# Altium footprint library Stock_Resistors.PcbLib: 9 footprints
Each footprint in its own frame and in the unit in brackets; x right, y up, seen from the top. Pads: shape width x height; smd on the part's side, far side on the other; paste and mask are expansions set on the pad; w line width, h text height; cw(c..) or ccw(c..) is an arc to the next point about the centre after c.
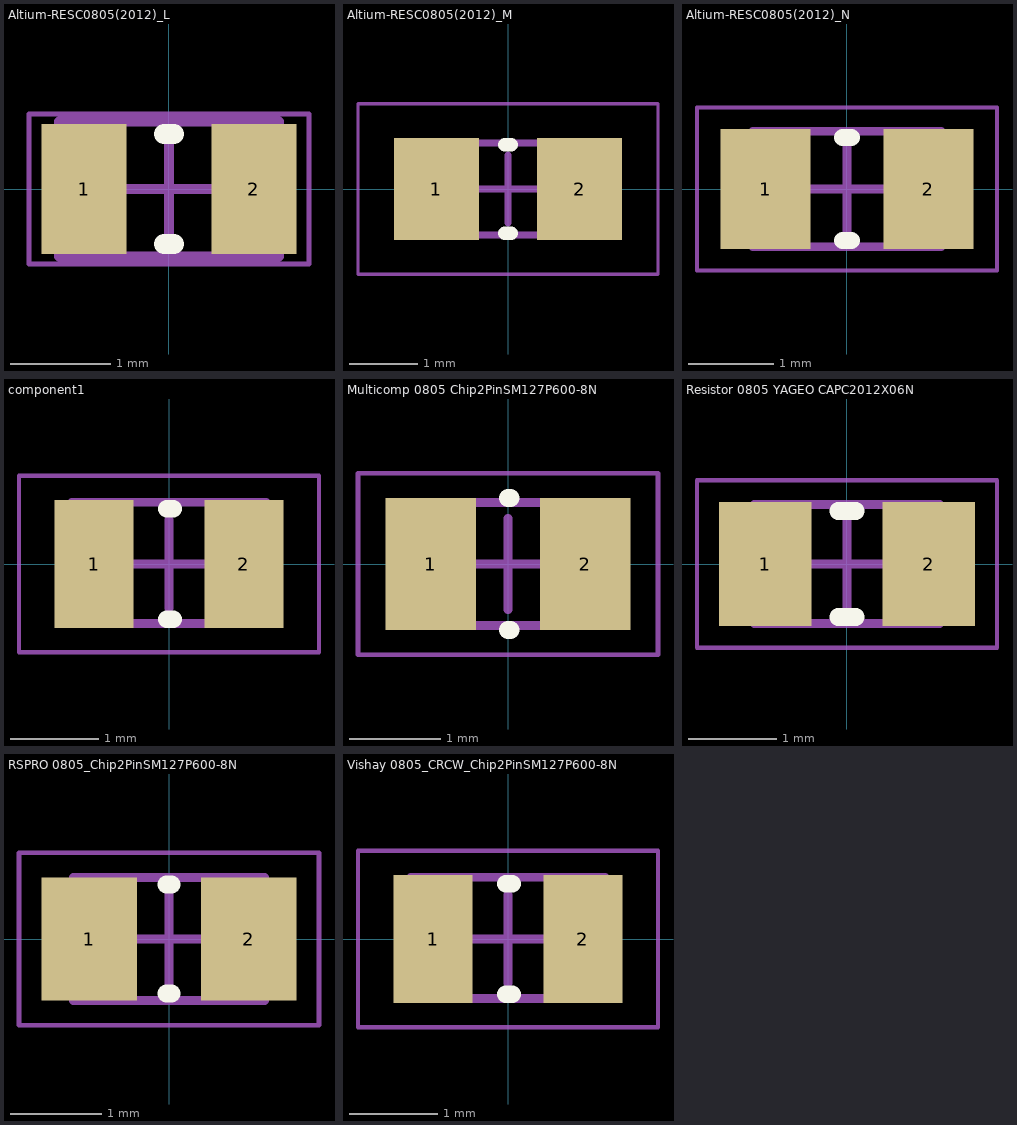
[diagram p0: the footprints below, top view; thin cyan lines are the x and y axes]

## Altium-RESC0805(2012)_L [mm] "Altium 0805 type L"
height 2
pads (2):
  rect 0.85x1.3 smd: 1(-0.85,0) 2(0.85,0)
Top Overlay:
  lines w0.2: -0.05,-0.55 0.05,-0.55 ; -0.05,0.55 0.05,0.55
Mechanical 13:
  lines w0.1: -1.1,-0.675 -1.1,0.675 1.1,0.675 1.1,-0.675 -1.1,-0.675
Mechanical 15:
  lines w0.05: -1.4,-0.75 -1.4,0.75 1.4,0.75 1.4,-0.75 -1.4,-0.75
  lines w0.1: -0.5,0 0.5,0 ; 0,-0.5 0,0.5

## Altium-RESC0805(2012)_M [mm] "Altium 0805 type M"
height 2
pads (2):
  rect 1.25x1.5 smd: 1(-1.05,0) 2(1.05,0)
Top Overlay:
  lines w0.2: -0.05,-0.65 0.05,-0.65 ; -0.05,0.65 0.05,0.65
Mechanical 13:
  lines w0.1: -1.1,-0.675 1.1,-0.675 1.1,0.675 -1.1,0.675 -1.1,-0.675
Mechanical 15:
  lines w0.05: -2.2,-1.25 2.2,-1.25 2.2,1.25 -2.2,1.25 -2.2,-1.25
  lines w0.1: -0.5,0 0.5,0 ; 0,-0.5 0,0.5
3D body: height 0.7, standoff 0, extent 0.68,-0.675 1.1,0.675
3D body: height 0.7, standoff 0, extent -0.68,-0.675 0.68,0.675
3D body: height 0.7, standoff 0, extent -1.1,-0.675 -0.68,0.675

## Altium-RESC0805(2012)_N [mm] "Altiom 0805 type N"
height 2
pads (2):
  rect 1.05x1.4 smd: 1(-0.95,0) 2(0.95,0)
Top Overlay:
  lines w0.2: -0.05,-0.6 0.05,-0.6 ; -0.05,0.6 0.05,0.6
Mechanical 13:
  lines w0.1: -1.1,-0.675 1.1,-0.675 1.1,0.675 -1.1,0.675 -1.1,-0.675
Mechanical 15:
  lines w0.05: -1.75,-0.95 1.75,-0.95 1.75,0.95 -1.75,0.95 -1.75,-0.95
  lines w0.1: -0.5,0 0.5,0 ; 0,-0.5 0,0.5
3D body: height 0.7, standoff 0, extent -1.1,-0.675 -0.68,0.675
3D body: height 0.7, standoff 0, extent -0.68,-0.675 0.68,0.675
3D body: height 0.7, standoff 0, extent 0.68,-0.675 1.1,0.675

## component1 [mm] "Vishay CRCW0805 series resistors"
height 0.5
pads (2):
  rect 0.9x1.45 smd: 1(-0.85,0) 2(0.85,0)
Top Overlay:
  lines w0.2: -0.025,-0.625 0.05,-0.625 ; -0.025,0.625 0.05,0.625
Mechanical 13:
  lines w0.1: -1.1,-0.675 -1.1,0.7 1.1,0.7 1.1,-0.675 -1.1,-0.675
Mechanical 15:
  lines w0.05: -1.7,-1 -1.7,1 1.7,1 1.7,-1 -1.7,-1
  lines w0.1: -0.5,0 0.5,0 ; 0,-0.5 0,0.5
3D body "Vishay 0805_CRCW_Chip2PinSM127P600-8N.step": height 0.5, standoff 0, extent -1.1,-0.7 1.1,0.7

## Multicomp 0805 Chip2PinSM127P600-8N [mm] "mcwr08 series 0805 resistor"
height 0.65
pads (2):
  rect 1x1.45 smd: 1(-0.85,0) 2(0.85,0)
Top Overlay:
  lines w0.2: 0,-0.725 0.025,-0.725 ; 0,0.725 0.025,0.725
Mechanical 13:
  lines w0.1: -1.05,-0.675 1.05,-0.675 1.05,0.675 -1.05,0.675 -1.05,-0.675
Mechanical 15:
  lines w0.05: -1.65,-1 1.65,-1 1.65,1 -1.65,1 -1.65,-1
  lines w0.1: -0.5,0 0.5,0 ; 0,-0.5 0,0.5
3D body "Multicomp 0805 Chip2PinSM127P600-8N.step": height 0.65, standoff 0, extent -1.05,-0.675 1.05,0.675

## PCBComponent_1 [mm]

## Resistor 0805 YAGEO CAPC2012X06N [mm] "Chip Capacitor, 2-Leads, Body 2.00x1.25mm, IPC Medium Density"
height 0.6
pads (2):
  rect 1.05x1.4 smd: 1(-0.925,0) 2(0.925,0)
Top Overlay:
  lines w0.2: -0.1,-0.6 0.1,-0.6 ; -0.1,0.6 0.1,0.6
Mechanical 13:
  lines w0.1: -1.05,-0.675 -1.05,0.675 1.05,0.675 1.05,-0.675 -1.05,-0.675
Mechanical 15:
  lines w0.05: -1.7,-0.95 -1.7,0.95 1.7,0.95 1.7,-0.95 -1.7,-0.95
  lines w0.1: -0.5,0 0.5,0 ; 0,-0.5 0,0.5
3D body "Resistor 0805 YAGEO CAPC2012X06N.step": height 0.6, standoff 0, extent -1.05,-0.675 1.05,0.675

## RSPRO 0805_Chip2PinSM127P600-8N [mm] "0805"
height 0.51
pads (2):
  rect 1.05x1.35 smd: 1(-0.875,0) 2(0.875,0)
Top Overlay:
  lines w0.2: -0.025,-0.6 0.025,-0.6 ; -0.025,0.6 0.025,0.6
Mechanical 13:
  lines w0.1: -1.05,-0.675 -1.05,0.675 1.05,0.675 1.05,-0.675 -1.05,-0.675
Mechanical 15:
  lines w0.05: -1.65,-0.95 -1.65,0.95 1.65,0.95 1.65,-0.95 -1.65,-0.95
  lines w0.1: -0.5,0 0.5,0 ; 0,-0.5 0,0.5
3D body "RSPRO 0805_Chip2PinSM127P600-8N.step": height 0.51, standoff 0, extent -1.05,-0.675 1.05,0.675

## Vishay 0805_CRCW_Chip2PinSM127P600-8N [mm] "Vishay CRCW0805 series resistors"
height 0.5
pads (2):
  rect 0.9x1.45 smd: 1(-0.85,0) 2(0.85,0)
Top Overlay:
  lines w0.2: -0.025,-0.625 0.05,-0.625 ; -0.025,0.625 0.05,0.625
Mechanical 13:
  lines w0.1: -1.1,-0.675 1.1,-0.675 1.1,0.7 -1.1,0.7 -1.1,-0.675
Mechanical 15:
  lines w0.05: -1.7,-1 1.7,-1 1.7,1 -1.7,1 -1.7,-1
  lines w0.1: -0.5,0 0.5,0 ; 0,-0.5 0,0.5
3D body "Vishay 0805_CRCW_Chip2PinSM127P600-8N.step": height 0.5, standoff 0, extent -1.1,-0.7 1.1,0.7